# EAGLE library part PROTOSPACE2 (library ISS-Notify)
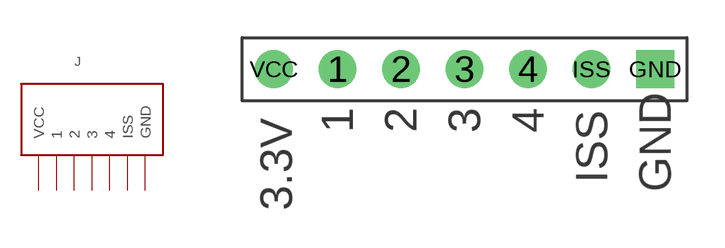
[diagram p5: symbol with the pads of PROTOSPACE2; footprint PROTOSPACE2]

Designator prefix J

## PROTOSPACE2  [PROTOSPACE2]
1  1
2  2
3  3
4  4
GND  GND
ISS  ISS
VCC  VCC

## Footprint PROTOSPACE2 (pad centres in mm)
drill 1: 1 -5.08,0; 2 -2.54,0; 3 0,0; 4 2.54,0; ISS 5.08,0; VCC -7.62,0
drill 1 square: GND 7.62,0